# Altium footprint library SparkFun-Switches.PCBLIB: 67 footprints (part 2 of 6)
Each footprint in its own frame and in the unit in brackets; x right, y up, seen from the top. Pads: shape width x height; smd on the part's side, far side on the other; paste and mask are expansions set on the pad; w line width, h text height; cw(c..) or ccw(c..) is an arc to the next point about the centre after c.
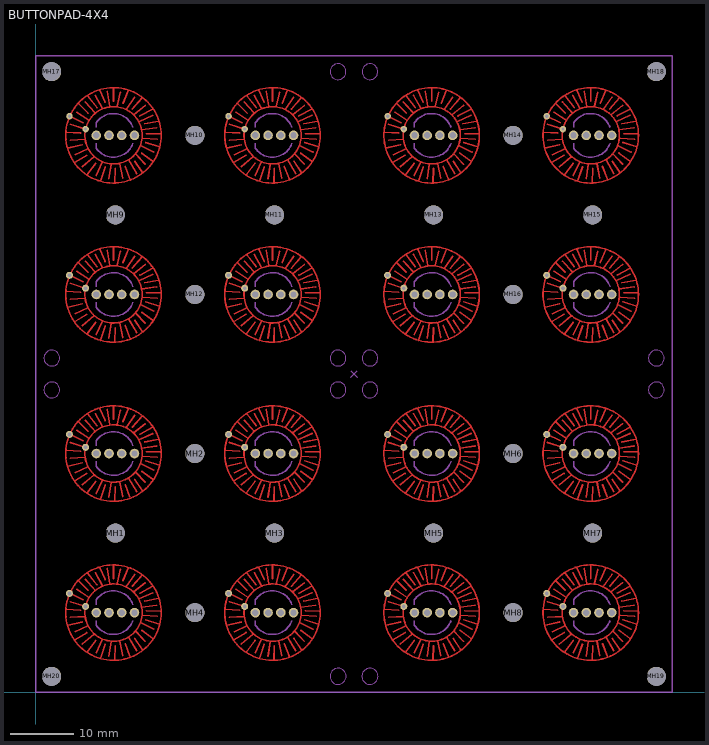
[diagram p1: the footprint, top view; thin cyan lines are the x and y axes]

## BUTTONPAD-4X4 [mm]
pads (116):
  round 1.508 hole 1: BLU0(13.5,87.5) BLU1(38.5,87.5) BLU2(63.5,87.5) BLU3(88.5,87.5) BLU4(13.5,62.5) BLU5(38.5,62.5) BLU6(63.5,62.5) BLU7(88.5,62.5) BLU8(13.5,37.5) BLU9(38.5,37.5) BLU10(63.5,37.5) BLU11(88.5,37.5) BLU12(13.5,12.5) BLU13(38.5,12.5) BLU14(63.5,12.5) BLU15(88.5,12.5) GND0(11.5,87.5) GND1(36.5,87.5) GND2(61.5,87.5) GND3(86.5,87.5) GND4(11.5,62.5) GND5(36.5,62.5) GND6(61.5,62.5) GND7(86.5,62.5) GND8(11.5,37.5) GND9(36.5,37.5) GND10(61.5,37.5) GND11(86.5,37.5) GND12(11.5,12.5) GND13(36.5,12.5) GND14(61.5,12.5) GND15(86.5,12.5) GRN0(15.5,87.5) GRN1(40.5,87.5) GRN2(65.5,87.5) GRN3(90.5,87.5) GRN4(15.5,62.5) GRN5(40.5,62.5) GRN6(65.5,62.5) GRN7(90.5,62.5) GRN8(15.5,37.5) GRN9(40.5,37.5) GRN10(65.5,37.5) GRN11(90.5,37.5) GRN12(15.5,12.5) GRN13(40.5,12.5) GRN14(65.5,12.5) GRN15(90.5,12.5) RED0(9.5,87.5) RED1(34.5,87.5) RED2(59.5,87.5) RED3(84.5,87.5) RED4(9.5,62.5) RED5(34.5,62.5) RED6(59.5,62.5) RED7(84.5,62.5) RED8(9.5,37.5) RED9(34.5,37.5) RED10(59.5,37.5) RED11(84.5,37.5) RED12(9.5,12.5) RED13(34.5,12.5) RED14(59.5,12.5) RED15(84.5,12.5)
  round 3 hole 3 unplated: MH1(12.5,25) MH2(25,37.5) MH3(37.5,25) MH4(25,12.5) MH5(62.5,25) MH6(75,37.5) MH7(87.5,25) MH8(75,12.5) MH9(12.5,75) MH10(25,87.5) MH11(37.5,75) MH12(25,62.5) MH13(62.5,75) MH14(75,87.5) MH15(87.5,75) MH16(75,62.5) MH17(2.484,97.516) MH18(97.516,97.516) MH19(97.516,2.484) MH20(2.484,2.484)
  round 1.016 hole 0.508: SIG0(5.288,90.513) SIG1(7.828,88.481) SIG2(30.288,90.513) SIG3(32.828,88.481) SIG4(55.288,90.513) SIG5(57.828,88.481) SIG6(80.288,90.513) SIG7(82.828,88.481)
  round 1.108 hole 0.6: SIG8(5.288,65.513) SIG9(7.828,63.481) SIG10(30.288,65.513) SIG11(32.828,63.481) SIG12(55.288,65.513) SIG13(57.828,63.481) SIG14(80.288,65.513) SIG15(82.828,63.481) SIG16(5.288,40.513) SIG17(7.828,38.481) SIG18(30.288,40.513) SIG19(32.828,38.481) SIG20(55.288,40.513) SIG21(57.828,38.481) SIG22(80.288,40.513) SIG23(82.828,38.481) SIG24(5.288,15.513) SIG25(7.828,13.481) SIG26(30.288,15.513) SIG27(32.828,13.481) SIG28(55.288,15.513) SIG29(57.828,13.481) SIG30(80.288,15.513) SIG31(82.828,13.481)
Top:
  circle w0.254: c12.2,37.5 r7.5
  circle w0.254: c12.21,37.51 r4.5
  circle w0.254: c37.2,37.5 r7.5
  circle w0.254: c37.21,37.51 r4.5
  circle w0.254: c12.2,12.5 r7.5
  circle w0.254: c12.21,12.51 r4.5
  circle w0.254: c37.2,12.5 r7.5
  circle w0.254: c37.21,12.51 r4.5
  circle w0.254: c62.2,37.5 r7.5
  circle w0.254: c62.21,37.51 r4.5
  circle w0.254: c87.2,37.5 r7.5
  circle w0.254: c87.21,37.51 r4.5
  circle w0.254: c62.2,12.5 r7.5
  circle w0.254: c62.21,12.51 r4.5
  circle w0.254: c87.2,12.5 r7.5
  circle w0.254: c87.21,12.51 r4.5
  circle w0.254: c12.2,87.5 r7.5
  circle w0.254: c12.21,87.51 r4.5
  circle w0.254: c37.2,87.5 r7.5
  circle w0.254: c37.21,87.51 r4.5
  circle w0.254: c12.2,62.5 r7.5
  circle w0.254: c12.21,62.51 r4.5
  circle w0.254: c37.2,62.5 r7.5
  circle w0.254: c37.21,62.51 r4.5
  circle w0.254: c62.2,87.5 r7.5
  circle w0.254: c62.21,87.51 r4.5
  circle w0.254: c87.2,87.5 r7.5
  circle w0.254: c87.21,87.51 r4.5
  circle w0.254: c62.2,62.5 r7.5
  circle w0.254: c62.21,62.51 r4.5
  circle w0.254: c87.2,62.5 r7.5
  circle w0.254: c87.21,62.51 r4.5
  lines w0.254: 4.72,13.01 7.02,12.87 ; 4.72,38.01 7.02,37.87 ; 4.72,63.01 7.02,62.87 ; 4.72,88.01 7.02,87.87 ; 5.04,10.52 7.31,11.03 ; 5.04,35.52 7.31,36.03 ; 5.04,60.52 7.31,61.03 ; 5.04,85.52 7.31,86.03 ; 5.36,15.54 7.42,14.5 ; 5.36,40.54 7.42,39.5 ; 5.36,65.54 7.42,64.5 ; 5.36,90.54 7.42,89.5 ; 5.41,14.24 7.74,13.5 ; 5.41,39.24 7.74,38.5 ; 5.41,64.24 7.74,63.5 ; 5.41,89.24 7.74,88.5 ; 5.44,11.75 7.74,11.89 ; 5.44,36.75 7.74,36.89 ; 5.44,61.75 7.74,61.89 ; 5.44,86.75 7.74,86.89 ; 6.13,8.25 8.03,9.37 ; 6.13,33.25 8.03,34.37 ; 6.13,58.25 8.03,59.37 ; 6.13,83.25 8.03,84.37 ; 6.19,9.48 8.19,10.42 ; 6.19,34.48 8.19,35.42 ; 6.19,59.48 8.19,60.42 ; 6.19,84.48 8.19,85.42 ; 6.43,16.16 8.35,14.88 ; 6.43,41.16 8.35,39.88 ; 6.43,66.16 8.35,64.88 ; 6.43,91.16 8.35,89.88 ; 6.7,17.5 8.2,16 ; 6.7,42.5 8.2,41 ; 6.7,67.5 8.2,66 ; 6.7,92.5 8.2,91 ; 7.28,7.58 9.13,9.13 ; 7.28,32.58 9.13,34.13 ; 7.28,57.58 9.13,59.13 ; 7.28,82.58 9.13,84.13 ; 7.76,17.74 9.29,16.05 ; 7.76,42.74 9.29,41.05 ; 7.76,67.74 9.29,66.05 ; 7.76,92.74 9.29,91.05 ; 8.11,6.33 9.44,8.13 ; 8.11,31.33 9.44,33.13 ; 8.11,56.33 9.44,58.13 ; 8.11,81.33 9.44,83.13 ; 8.19,18.7 9.61,16.86 ; 8.19,43.7 9.61,41.86 ; 8.19,68.7 9.61,66.86 ; 8.19,93.7 9.61,91.86 ; 9.35,18.78 10.46,16.8 ; 9.35,43.78 10.46,41.8 ; 9.35,68.78 10.46,66.8 ; 9.35,93.78 10.46,91.8 ; 9.47,6.19 10.46,8.28 ; 9.47,31.19 10.46,33.28 ; 9.47,56.19 10.46,58.28 ; 9.47,81.19 10.46,83.28 ; 10.04,19.61 10.88,17.68 ; 10.04,44.61 10.88,42.68 ; 10.04,69.61 10.88,67.68 ; 10.04,94.61 10.88,92.68 ; 10.17,5.42 10.91,7.55 ; 10.17,30.42 10.91,32.55 ; 10.17,55.42 10.91,57.55 ; 10.17,80.42 10.91,82.55 ; 11.21,19.45 11.59,17.07 ; 11.21,44.45 11.59,42.07 ; 11.21,69.45 11.59,67.07 ; 11.21,94.45 11.59,92.07 ; 11.49,5.66 11.83,7.93 ; 11.49,30.66 11.83,32.93 ; 11.49,55.66 11.83,57.93 ; 11.49,80.66 11.83,82.93 ; 12.2,17.87 12.2,19.96 ; 12.2,42.87 12.2,44.96 ; 12.2,67.87 12.2,69.96 ; 12.2,92.87 12.2,94.96 ; 12.42,5.06 12.49,7.29 ; 12.42,30.06 12.49,32.29 ; 12.42,55.06 12.49,57.29 ; 12.42,80.06 12.49,82.29 ; 12.79,17.12 13.3,19.29 ; 12.79,42.12 13.3,44.29 ; 12.79,67.12 13.3,69.29 ; 12.79,92.12 13.3,94.29 ; 13.19,8.04 13.64,5.74 ; 13.19,33.04 13.64,30.74 ; 13.19,58.04 13.64,55.74 ; 13.19,83.04 13.64,80.74 ; 13.7,17.52 14.53,19.53 ; 13.7,42.52 14.53,44.53 ; 13.7,67.52 14.53,69.53 ; 13.7,92.52 14.53,94.53 ; 14.05,7.62 14.79,5.69 ; 14.05,32.62 14.79,30.69 ; 14.05,57.62 14.79,55.69 ; 14.05,82.62 14.79,80.69 ; 14.18,16.59 15.54,18.51 ; 14.18,41.59 15.54,43.51 ; 14.18,66.59 15.54,68.51 ; 14.18,91.59 15.54,93.51 ; 14.61,8.6 15.83,6.51 ; 14.61,33.6 15.83,31.51 ; 14.61,58.6 15.83,56.51 ; 14.61,83.6 15.83,81.51 ; 15.17,16.64 16.72,18.41 ; 15.17,41.64 16.72,43.41 ; 15.17,66.64 16.72,68.41 ; 15.17,91.64 16.72,93.41 ; 15.38,15.76 17.21,17.2 ; 15.38,40.76 17.21,42.2 ; 15.38,65.76 17.21,67.2 ; 15.38,90.76 17.21,92.2 ; 15.57,8.44 16.74,6.7 ; 15.57,33.44 16.74,31.7 ; 15.57,58.44 16.74,56.7 ; 15.57,83.44 16.74,81.7 ; 15.7,9.56 17.21,7.98 ; 15.7,34.56 17.21,32.98 ; 15.7,59.56 17.21,57.98 ; 15.7,84.56 17.21,82.98 ; 16.18,14.66 18.4,15.65 ; 16.18,39.66 18.4,40.65 ; 16.18,64.66 18.4,65.65 ; 16.18,89.66 18.4,90.65 ; 16.34,15.55 18.35,16.62 ; 16.34,40.55 18.35,41.62 ; 16.34,65.55 18.35,66.62 ; 16.34,90.55 18.35,91.62 ; 16.5,10.9 18.56,9.88 ; 16.5,35.9 18.56,34.88 ; 16.5,60.9 18.56,59.88 ; 16.5,85.9 18.56,84.88 ; 16.61,13.36 19.01,13.68 ; 16.61,38.36 19.01,38.68 ; 16.61,63.36 19.01,63.68 ; 16.61,88.36 19.01,88.68 ; 16.64,9.72 18.37,8.44 ; 16.64,34.72 18.37,33.44 ; 16.64,59.72 18.37,58.44 ; 16.64,84.72 18.37,83.44 ; 16.8,12.07 19.07,11.91 ; 16.8,37.07 19.07,36.91 ; 16.8,62.07 19.07,61.91 ; 16.8,87.07 19.07,86.91 ; 17.09,14.32 19.31,14.74 ; 17.09,39.32 19.31,39.74 ; 17.09,64.32 19.31,64.74 ; 17.09,89.32 19.31,89.74 ; 17.25,11.38 19.42,10.68 ; 17.25,36.38 19.42,35.68 ; 17.25,61.38 19.42,60.68 ; 17.25,86.38 19.42,85.68 ; 17.38,12.77 19.58,12.74 ; 17.38,37.77 19.58,37.74 ; 17.38,62.77 19.58,62.74 ; 17.38,87.77 19.58,87.74 ; 29.72,13.01 32.02,12.87 ; 29.72,38.01 32.02,37.87 ; 29.72,63.01 32.02,62.87 ; 29.72,88.01 32.02,87.87 ; 30.04,10.52 32.31,11.03 ; 30.04,35.52 32.31,36.03 ; 30.04,60.52 32.31,61.03 ; 30.04,85.52 32.31,86.03 ; 30.36,15.54 32.42,14.5 ; 30.36,40.54 32.42,39.5 ; 30.36,65.54 32.42,64.5 ; 30.36,90.54 32.42,89.5 ; 30.41,14.24 32.74,13.5 ; 30.41,39.24 32.74,38.5 ; 30.41,64.24 32.74,63.5 ; 30.41,89.24 32.74,88.5 ; 30.44,11.75 32.74,11.89 ; 30.44,36.75 32.74,36.89 ; 30.44,61.75 32.74,61.89 ; 30.44,86.75 32.74,86.89 ; 31.13,8.25 33.03,9.37 ; 31.13,33.25 33.03,34.37 ; 31.13,58.25 33.03,59.37 ; 31.13,83.25 33.03,84.37 ; 31.19,9.48 33.19,10.42 ; 31.19,34.48 33.19,35.42 ; 31.19,59.48 33.19,60.42 ; 31.19,84.48 33.19,85.42 ; 31.43,16.16 33.35,14.88 ; 31.43,41.16 33.35,39.88 ; 31.43,66.16 33.35,64.88 ; 31.43,91.16 33.35,89.88 ; 31.7,17.5 33.2,16 ; 31.7,42.5 33.2,41 ; 31.7,67.5 33.2,66 ; 31.7,92.5 33.2,91 ; 32.28,7.58 34.13,9.13 ; 32.28,32.58 34.13,34.13 ; 32.28,57.58 34.13,59.13 ; 32.28,82.58 34.13,84.13 ; 32.76,17.74 34.29,16.05 ; 32.76,42.74 34.29,41.05 ; 32.76,67.74 34.29,66.05 ; 32.76,92.74 34.29,91.05 ; 33.11,6.33 34.44,8.13 ; 33.11,31.33 34.44,33.13 ; 33.11,56.33 34.44,58.13 ; 33.11,81.33 34.44,83.13 ; 33.19,18.7 34.61,16.86 ; 33.19,43.7 34.61,41.86 ; 33.19,68.7 34.61,66.86 ; 33.19,93.7 34.61,91.86 ; 34.35,18.78 35.46,16.8 ; 34.35,43.78 35.46,41.8 ; 34.35,68.78 35.46,66.8 ; 34.35,93.78 35.46,91.8 ; 34.47,6.19 35.46,8.28 ; 34.47,31.19 35.46,33.28 ; 34.47,56.19 35.46,58.28 ; 34.47,81.19 35.46,83.28 ; 35.04,19.61 35.88,17.68 ; 35.04,44.61 35.88,42.68 ; 35.04,69.61 35.88,67.68 ; 35.04,94.61 35.88,92.68 ; 35.17,5.42 35.91,7.55 ; 35.17,30.42 35.91,32.55 ; 35.17,55.42 35.91,57.55 ; 35.17,80.42 35.91,82.55 ; 36.21,19.45 36.59,17.07 ; 36.21,44.45 36.59,42.07 ; 36.21,69.45 36.59,67.07 ; 36.21,94.45 36.59,92.07 ; 36.49,5.66 36.83,7.93 ; 36.49,30.66 36.83,32.93 ; 36.49,55.66 36.83,57.93 ; 36.49,80.66 36.83,82.93 ; 37.2,17.87 37.2,19.96 ; 37.2,42.87 37.2,44.96 ; 37.2,67.87 37.2,69.96 ; 37.2,92.87 37.2,94.96 ; 37.42,5.06 37.49,7.29 ; 37.42,30.06 37.49,32.29 ; 37.42,55.06 37.49,57.29 ; 37.42,80.06 37.49,82.29 ; 37.79,17.12 38.3,19.29 ; 37.79,42.12 38.3,44.29 ; 37.79,67.12 38.3,69.29 ; 37.79,92.12 38.3,94.29 ; 38.19,8.04 38.64,5.74 ; 38.19,33.04 38.64,30.74 ; 38.19,58.04 38.64,55.74 ; 38.19,83.04 38.64,80.74 ; 38.7,17.52 39.53,19.53 ; 38.7,42.52 39.53,44.53 ; 38.7,67.52 39.53,69.53 ; 38.7,92.52 39.53,94.53 ; 39.05,7.62 39.79,5.69 ; 39.05,32.62 39.79,30.69 ; 39.05,57.62 39.79,55.69 ; 39.05,82.62 39.79,80.69 ; 39.18,16.59 40.54,18.51 ; 39.18,41.59 40.54,43.51 ; 39.18,66.59 40.54,68.51 ; 39.18,91.59 40.54,93.51 ; 39.61,8.6 40.83,6.51 ; 39.61,33.6 40.83,31.51 ; 39.61,58.6 40.83,56.51 ; 39.61,83.6 40.83,81.51 ; 40.17,16.64 41.72,18.41 ; 40.17,41.64 41.72,43.41 ; 40.17,66.64 41.72,68.41 ; 40.17,91.64 41.72,93.41 ; 40.38,15.76 42.21,17.2 ; 40.38,40.76 42.21,42.2 ; 40.38,65.76 42.21,67.2 ; 40.38,90.76 42.21,92.2 ; 40.57,8.44 41.74,6.7 ; 40.57,33.44 41.74,31.7 ; 40.57,58.44 41.74,56.7 ; 40.57,83.44 41.74,81.7 ; 40.7,9.56 42.21,7.98 ; 40.7,34.56 42.21,32.98 ; 40.7,59.56 42.21,57.98 ; 40.7,84.56 42.21,82.98 ; 41.18,14.66 43.4,15.65 ; 41.18,39.66 43.4,40.65 ; 41.18,64.66 43.4,65.65 ; 41.18,89.66 43.4,90.65 ; 41.34,15.55 43.35,16.62 ; 41.34,40.55 43.35,41.62 ; 41.34,65.55 43.35,66.62 ; 41.34,90.55 43.35,91.62 ; 41.5,10.9 43.56,9.88 ; 41.5,35.9 43.56,34.88 ; 41.5,60.9 43.56,59.88 ; 41.5,85.9 43.56,84.88 ; 41.61,13.36 44.01,13.68 ; 41.61,38.36 44.01,38.68 ; 41.61,63.36 44.01,63.68 ; 41.61,88.36 44.01,88.68 ; 41.64,9.72 43.37,8.44 ; 41.64,34.72 43.37,33.44 ; 41.64,59.72 43.37,58.44 ; 41.64,84.72 43.37,83.44 ; 41.8,12.07 44.07,11.91 ; 41.8,37.07 44.07,36.91 ; 41.8,62.07 44.07,61.91 ; 41.8,87.07 44.07,86.91 ; 42.09,14.32 44.31,14.74 ; 42.09,39.32 44.31,39.74 ; 42.09,64.32 44.31,64.74 ; 42.09,89.32 44.31,89.74 ; 42.25,11.38 44.42,10.68 ; 42.25,36.38 44.42,35.68 ; 42.25,61.38 44.42,60.68 ; 42.25,86.38 44.42,85.68 ; 42.38,12.77 44.58,12.74 ; 42.38,37.77 44.58,37.74 ; 42.38,62.77 44.58,62.74 ; 42.38,87.77 44.58,87.74 ; 54.72,13.01 57.02,12.87 ; 54.72,38.01 57.02,37.87 ; 54.72,63.01 57.02,62.87 ; 54.72,88.01 57.02,87.87 ; 55.04,10.52 57.31,11.03 ; 55.04,35.52 57.31,36.03 ; 55.04,60.52 57.31,61.03 ; 55.04,85.52 57.31,86.03 ; 55.36,15.54 57.42,14.5 ; 55.36,40.54 57.42,39.5 ; 55.36,65.54 57.42,64.5 ; 55.36,90.54 57.42,89.5 ; 55.41,14.24 57.74,13.5 ; 55.41,39.24 57.74,38.5 ; 55.41,64.24 57.74,63.5 ; 55.41,89.24 57.74,88.5 ; 55.44,11.75 57.74,11.89 ; 55.44,36.75 57.74,36.89 ; 55.44,61.75 57.74,61.89 ; 55.44,86.75 57.74,86.89 ; 56.13,8.25 58.03,9.37 ; 56.13,33.25 58.03,34.37 ; 56.13,58.25 58.03,59.37 ; 56.13,83.25 58.03,84.37 ; 56.19,9.48 58.19,10.42 ; 56.19,34.48 58.19,35.42 ; 56.19,59.48 58.19,60.42 ; 56.19,84.48 58.19,85.42 ; 56.43,16.16 58.35,14.88 ; 56.43,41.16 58.35,39.88 ; 56.43,66.16 58.35,64.88 ; 56.43,91.16 58.35,89.88 ; 56.7,17.5 58.2,16 ; 56.7,42.5 58.2,41 ; 56.7,67.5 58.2,66 ; 56.7,92.5 58.2,91 ; 57.28,7.58 59.13,9.13 ; 57.28,32.58 59.13,34.13 ; 57.28,57.58 59.13,59.13 ; 57.28,82.58 59.13,84.13 ; 57.76,17.74 59.29,16.05 ; 57.76,42.74 59.29,41.05 ; 57.76,67.74 59.29,66.05 ; 57.76,92.74 59.29,91.05 ; 58.11,6.33 59.44,8.13 ; 58.11,31.33 59.44,33.13 ; 58.11,56.33 59.44,58.13 ; 58.11,81.33 59.44,83.13 ; 58.19,18.7 59.61,16.86 ; 58.19,43.7 59.61,41.86 ; 58.19,68.7 59.61,66.86 ; 58.19,93.7 59.61,91.86 ; 59.35,18.78 60.46,16.8 ; 59.35,43.78 60.46,41.8 ; 59.35,68.78 60.46,66.8 ; 59.35,93.78 60.46,91.8 ; 59.47,6.19 60.46,8.28 ; 59.47,31.19 60.46,33.28 ; 59.47,56.19 60.46,58.28 ; 59.47,81.19 60.46,83.28 ; 60.04,19.61 60.88,17.68 ; 60.04,44.61 60.88,42.68 ; 60.04,69.61 60.88,67.68 ; 60.04,94.61 60.88,92.68 ; 60.17,5.42 60.91,7.55 ; 60.17,30.42 60.91,32.55 ; 60.17,55.42 60.91,57.55 ; 60.17,80.42 60.91,82.55 ; 61.21,19.45 61.59,17.07 ; 61.21,44.45 61.59,42.07 ; 61.21,69.45 61.59,67.07 ; 61.21,94.45 61.59,92.07 ; 61.49,5.66 61.83,7.93 ; 61.49,30.66 61.83,32.93 ; 61.49,55.66 61.83,57.93 ; 61.49,80.66 61.83,82.93 ; 62.2,17.87 62.2,19.96 ; 62.2,42.87 62.2,44.96 ; 62.2,67.87 62.2,69.96 ; 62.2,92.87 62.2,94.96 ; 62.42,5.06 62.49,7.29 ; 62.42,30.06 62.49,32.29 ; 62.42,55.06 62.49,57.29 ; 62.42,80.06 62.49,82.29 ; 62.79,17.12 63.3,19.29 ; 62.79,42.12 63.3,44.29 ; 62.79,67.12 63.3,69.29 ; 62.79,92.12 63.3,94.29 ; 63.19,8.04 63.64,5.74 ; 63.19,33.04 63.64,30.74 ; 63.19,58.04 63.64,55.74 ; 63.19,83.04 63.64,80.74 ; 63.7,17.52 64.53,19.53 ; 63.7,42.52 64.53,44.53 ; 63.7,67.52 64.53,69.53 ; 63.7,92.52 64.53,94.53 ; 64.05,7.62 64.79,5.69 ; 64.05,32.62 64.79,30.69 ; 64.05,57.62 64.79,55.69 ; 64.05,82.62 64.79,80.69 ; 64.18,16.59 65.54,18.51 ; 64.18,41.59 65.54,43.51 ; 64.18,66.59 65.54,68.51 ; 64.18,91.59 65.54,93.51 ; 64.61,8.6 65.83,6.51 ; 64.61,33.6 65.83,31.51 ; 64.61,58.6 65.83,56.51 ; 64.61,83.6 65.83,81.51 ; 65.17,16.64 66.72,18.41 ; 65.17,41.64 66.72,43.41 ; 65.17,66.64 66.72,68.41 ; 65.17,91.64 66.72,93.41 ; 65.38,15.76 67.21,17.2 ; 65.38,40.76 67.21,42.2 ; 65.38,65.76 67.21,67.2 ; 65.38,90.76 67.21,92.2 ; 65.57,8.44 66.74,6.7 ; 65.57,33.44 66.74,31.7 ; 65.57,58.44 66.74,56.7 ; 65.57,83.44 66.74,81.7 ; 65.7,9.56 67.21,7.98 ; 65.7,34.56 67.21,32.98 ; 65.7,59.56 67.21,57.98 ; 65.7,84.56 67.21,82.98 ; 66.18,14.66 68.4,15.65 ; 66.18,39.66 68.4,40.65 ; 66.18,64.66 68.4,65.65 ; 66.18,89.66 68.4,90.65 ; 66.34,15.55 68.35,16.62 ; 66.34,40.55 68.35,41.62 ; 66.34,65.55 68.35,66.62 ; 66.34,90.55 68.35,91.62 ; 66.5,10.9 68.56,9.88 ; 66.5,35.9 68.56,34.88 ; 66.5,60.9 68.56,59.88 ; 66.5,85.9 68.56,84.88 ; 66.61,13.36 69.01,13.68 ; 66.61,38.36 69.01,38.68 ; 66.61,63.36 69.01,63.68 ; 66.61,88.36 69.01,88.68 ; 66.64,9.72 68.37,8.44 ; 66.64,34.72 68.37,33.44 ; 66.64,59.72 68.37,58.44 ; 66.64,84.72 68.37,83.44 ; 66.8,12.07 69.07,11.91 ; 66.8,37.07 69.07,36.91 ; 66.8,62.07 69.07,61.91 ; 66.8,87.07 69.07,86.91 ; 67.09,14.32 69.31,14.74 ; 67.09,39.32 69.31,39.74 ; 67.09,64.32 69.31,64.74 ; 67.09,89.32 69.31,89.74 ; 67.25,11.38 69.42,10.68 ; 67.25,36.38 69.42,35.68 ; 67.25,61.38 69.42,60.68 ; 67.25,86.38 69.42,85.68 ; 67.38,12.77 69.58,12.74 ; 67.38,37.77 69.58,37.74 ; 67.38,62.77 69.58,62.74 ; 67.38,87.77 69.58,87.74 ; 79.72,13.01 82.02,12.87 ; 79.72,38.01 82.02,37.87 ; 79.72,63.01 82.02,62.87 ; 79.72,88.01 82.02,87.87 ; 80.04,10.52 82.31,11.03 ; 80.04,35.52 82.31,36.03 ; 80.04,60.52 82.31,61.03 ; 80.04,85.52 82.31,86.03 ; 80.36,15.54 82.42,14.5 ; 80.36,40.54 82.42,39.5 ; 80.36,65.54 82.42,64.5 ; 80.36,90.54 82.42,89.5 ; 80.41,14.24 82.74,13.5 ; 80.41,39.24 82.74,38.5 ; 80.41,64.24 82.74,63.5 ; 80.41,89.24 82.74,88.5 ; 80.44,11.75 82.74,11.89 ; 80.44,36.75 82.74,36.89 ; 80.44,61.75 82.74,61.89 ; 80.44,86.75 82.74,86.89 ; 81.13,8.25 83.03,9.37 ; 81.13,33.25 83.03,34.37 ; 81.13,58.25 83.03,59.37 ; 81.13,83.25 83.03,84.37 ; 81.19,9.48 83.19,10.42 ; 81.19,34.48 83.19,35.42 ; 81.19,59.48 83.19,60.42 ; 81.19,84.48 83.19,85.42 ; 81.43,16.16 83.35,14.88 ; 81.43,41.16 83.35,39.88 ; 81.43,66.16 83.35,64.88 ; 81.43,91.16 83.35,89.88 ; 81.7,17.5 83.2,16 ; 81.7,42.5 83.2,41 ; 81.7,67.5 83.2,66 ; 81.7,92.5 83.2,91 ; 82.28,7.58 84.13,9.13 ; 82.28,32.58 84.13,34.13 ; 82.28,57.58 84.13,59.13 ; 82.28,82.58 84.13,84.13 ; 82.76,17.74 84.29,16.05 ; 82.76,42.74 84.29,41.05 ; 82.76,67.74 84.29,66.05 ; 82.76,92.74 84.29,91.05 ; 83.11,6.33 84.44,8.13 ; 83.11,31.33 84.44,33.13 ; 83.11,56.33 84.44,58.13 ; 83.11,81.33 84.44,83.13 ; 83.19,18.7 84.61,16.86 ; 83.19,43.7 84.61,41.86 ; 83.19,68.7 84.61,66.86 ; 83.19,93.7 84.61,91.86 ; 84.35,18.78 85.46,16.8 ; 84.35,43.78 85.46,41.8 ; 84.35,68.78 85.46,66.8 ; 84.35,93.78 85.46,91.8 ; 84.47,6.19 85.46,8.28 ; 84.47,31.19 85.46,33.28 ; 84.47,56.19 85.46,58.28 ; 84.47,81.19 85.46,83.28 ; 85.04,19.61 85.88,17.68 ; 85.04,44.61 85.88,42.68 ; 85.04,69.61 85.88,67.68 ; 85.04,94.61 85.88,92.68 ; 85.17,5.42 85.91,7.55 ; 85.17,30.42 85.91,32.55 ; 85.17,55.42 85.91,57.55 ; 85.17,80.42 85.91,82.55 ; 86.21,19.45 86.59,17.07 ; 86.21,44.45 86.59,42.07 ; 86.21,69.45 86.59,67.07 ; 86.21,94.45 86.59,92.07 ; 86.49,5.66 86.83,7.93 ; 86.49,30.66 86.83,32.93 ; 86.49,55.66 86.83,57.93 ; 86.49,80.66 86.83,82.93 ; 87.2,17.87 87.2,19.96 ; 87.2,42.87 87.2,44.96 ; 87.2,67.87 87.2,69.96 ; 87.2,92.87 87.2,94.96 ; 87.42,5.06 87.49,7.29 ; 87.42,30.06 87.49,32.29 ; 87.42,55.06 87.49,57.29 ; 87.42,80.06 87.49,82.29 ; 87.79,17.12 88.3,19.29 ; 87.79,42.12 88.3,44.29 ; 87.79,67.12 88.3,69.29 ; 87.79,92.12 88.3,94.29 ; 88.19,8.04 88.64,5.74 ; 88.19,33.04 88.64,30.74 ; 88.19,58.04 88.64,55.74 ; 88.19,83.04 88.64,80.74 ; 88.7,17.52 89.53,19.53 ; 88.7,42.52 89.53,44.53 ; 88.7,67.52 89.53,69.53 ; 88.7,92.52 89.53,94.53 ; 89.05,7.62 89.79,5.69 ; 89.05,32.62 89.79,30.69 ; 89.05,57.62 89.79,55.69 ; 89.05,82.62 89.79,80.69 ; 89.18,16.59 90.54,18.51 ; 89.18,41.59 90.54,43.51 ; 89.18,66.59 90.54,68.51 ; 89.18,91.59 90.54,93.51 ; 89.61,8.6 90.83,6.51 ; 89.61,33.6 90.83,31.51 ; 89.61,58.6 90.83,56.51 ; 89.61,83.6 90.83,81.51 ; 90.17,16.64 91.72,18.41 ; 90.17,41.64 91.72,43.41 ; 90.17,66.64 91.72,68.41 ; 90.17,91.64 91.72,93.41 ; 90.38,15.76 92.21,17.2 ; 90.38,40.76 92.21,42.2 ; 90.38,65.76 92.21,67.2 ; 90.38,90.76 92.21,92.2 ; 90.57,8.44 91.74,6.7 ; 90.57,33.44 91.74,31.7 ; 90.57,58.44 91.74,56.7 ; 90.57,83.44 91.74,81.7 ; 90.7,9.56 92.21,7.98 ; 90.7,34.56 92.21,32.98 ; 90.7,59.56 92.21,57.98 ; 90.7,84.56 92.21,82.98 ; 91.18,14.66 93.4,15.65 ; 91.18,39.66 93.4,40.65 ; 91.18,64.66 93.4,65.65 ; 91.18,89.66 93.4,90.65 ; 91.34,15.55 93.35,16.62 ; 91.34,40.55 93.35,41.62 ; 91.34,65.55 93.35,66.62 ; 91.34,90.55 93.35,91.62 ; 91.5,10.9 93.56,9.88 ; 91.5,35.9 93.56,34.88 ; 91.5,60.9 93.56,59.88 ; 91.5,85.9 93.56,84.88 ; 91.61,13.36 94.01,13.68 ; 91.61,38.36 94.01,38.68 ; 91.61,63.36 94.01,63.68 ; 91.61,88.36 94.01,88.68 ; 91.64,9.72 93.37,8.44 ; 91.64,34.72 93.37,33.44 ; 91.64,59.72 93.37,58.44 ; 91.64,84.72 93.37,83.44 ; 91.8,12.07 94.07,11.91 ; 91.8,37.07 94.07,36.91 ; 91.8,62.07 94.07,61.91 ; 91.8,87.07 94.07,86.91 ; 92.09,14.32 94.31,14.74 ; 92.09,39.32 94.31,39.74 ; 92.09,64.32 94.31,64.74 ; 92.09,89.32 94.31,89.74 ; 92.25,11.38 94.42,10.68 ; 92.25,36.38 94.42,35.68 ; 92.25,61.38 94.42,60.68 ; 92.25,86.38 94.42,85.68 ; 92.38,12.77 94.58,12.74 ; 92.38,37.77 94.58,37.74 ; 92.38,62.77 94.58,62.74 ; 92.38,87.77 94.58,87.74
Top Solder:
  drawing of 672 lines, arcs and shapes, not listed
tDocu:
  circle w0.025: c2.515,2.489 r1.27
  circle w0.025: c2.515,47.498 r1.245
  circle w0.025: c47.498,2.489 r1.27
  circle w0.025: c47.498,47.498 r1.245
  circle w0.025: c2.515,52.502 r1.245
  circle w0.025: c2.515,97.511 r1.245
  circle w0.025: c47.498,52.502 r1.245
  circle w0.025: c47.498,97.511 r1.245
  circle w0.025: c52.502,2.489 r1.27
  circle w0.025: c52.502,47.498 r1.245
  circle w0.025: c97.511,2.489 r1.27
  circle w0.025: c97.511,47.498 r1.245
  circle w0.025: c52.502,52.502 r1.245
  circle w0.025: c52.502,97.511 r1.245
  circle w0.025: c97.511,52.502 r1.245
  circle w0.025: c97.511,97.511 r1.245
  lines w0.025: 49.505,49.505 50.495,50.495 ; 49.505,50.495 50.495,49.505 ; 0,0 0,100 100,100 100,0 0,0
tPlace:
  lines w0.203: 9.5,11.25 9.5,10.5 ccw(c12.188,12.312) 15.25,11.25 ; 9.5,13.75 9.5,14.5 cw(c12.187,12.688) 15.25,13.75 ; 9.5,36.25 9.5,35.5 ccw(c12.187,37.313) 15.25,36.25 ; 9.5,38.75 9.5,39.5 cw(c12.187,37.688) 15.25,38.75 ; 9.5,61.25 9.5,60.5 ccw(c12.187,62.312) 15.25,61.25 ; 9.5,63.75 9.5,64.5 cw(c12.187,62.688) 15.25,63.75 ; 9.5,86.25 9.5,85.5 ccw(c12.187,87.312) 15.25,86.25 ; 9.5,88.75 9.5,89.5 cw(c12.187,87.687) 15.25,88.75 ; 34.5,11.25 34.5,10.5 ccw(c37.188,12.313) 40.25,11.25 ; 34.5,13.75 34.5,14.5 cw(c37.188,12.688) 40.25,13.75 ; 34.5,36.25 34.5,35.5 ccw(c37.188,37.313) 40.25,36.25 ; 34.5,38.75 34.5,39.5 cw(c37.188,37.688) 40.25,38.75 ; 34.5,61.25 34.5,60.5 ccw(c37.188,62.313) 40.25,61.25 ; 34.5,63.75 34.5,64.5 cw(c37.188,62.687) 40.25,63.75 ; 34.5,86.25 34.5,85.5 ccw(c37.188,87.312) 40.25,86.25 ; 34.5,88.75 34.5,89.5 cw(c37.188,87.687) 40.25,88.75 ; 59.5,11.25 59.5,10.5 ccw(c62.188,12.313) 65.25,11.25 ; 59.5,13.75 59.5,14.5 cw(c62.188,12.688) 65.25,13.75 ; 59.5,36.25 59.5,35.5 ccw(c62.188,37.313) 65.25,36.25 ; 59.5,38.75 59.5,39.5 cw(c62.188,37.688) 65.25,38.75 ; 59.5,61.25 59.5,60.5 ccw(c62.188,62.313) 65.25,61.25 ; 59.5,63.75 59.5,64.5 cw(c62.188,62.687) 65.25,63.75 ; 59.5,86.25 59.5,85.5 ccw(c62.188,87.312) 65.25,86.25 ; 59.5,88.75 59.5,89.5 cw(c62.188,87.687) 65.25,88.75 ; 84.5,11.25 84.5,10.5 ccw(c87.188,12.313) 90.25,11.25 ; 84.5,13.75 84.5,14.5 cw(c87.187,12.688) 90.25,13.75 ; 84.5,36.25 84.5,35.5 ccw(c87.187,37.313) 90.25,36.25 ; 84.5,38.75 84.5,39.5 cw(c87.187,37.688) 90.25,38.75 ; 84.5,61.25 84.5,60.5 ccw(c87.187,62.313) 90.25,61.25 ; 84.5,63.75 84.5,64.5 cw(c87.187,62.687) 90.25,63.75 ; 84.5,86.25 84.5,85.5 ccw(c87.187,87.312) 90.25,86.25 ; 84.5,88.75 84.5,89.5 cw(c87.187,87.687) 90.25,88.75 ; 0,0 100,0 100,100 0,100 0,0
  text "B8" at 11.75,39 h1.57
  text "B9" at 36.75,39 h1.57
  text "B12" at 11,14 h1.57
  text "B13" at 36,14 h1.57
  text "B10" at 61,39 h1.57
  text "B11" at 86,39 h1.57
  text "B14" at 61,14 h1.57
  text "B15" at 86,14 h1.57
  text "B0" at 11.75,89 h1.57
  text "B1" at 36.75,89 h1.57
  text "B4" at 11.75,64 h1.57
  text "B5" at 36.75,64 h1.57
  text "B2" at 61.75,89 h1.57
  text "B3" at 86.75,89 h1.57
  text "B6" at 61.75,64 h1.57
  text "B7" at 86.75,64 h1.57
  text "Col0" at 11.75,97.5 h1.57
  text "Col1" at 36.75,97.5 h1.57
  text "Col2" at 61.75,97.5 h1.57
  text "Col3" at 85.75,97.5 h1.57
  text "Row0" at 3,86.25 h1.57
  text "Row1" at 2.75,61.25 h1.57
  text "Row2" at 2.75,36.25 h1.57
  text "Row3" at 2.75,11 h1.57